# EAGLE library part MX150L-16PINS (library HyTechDevices)
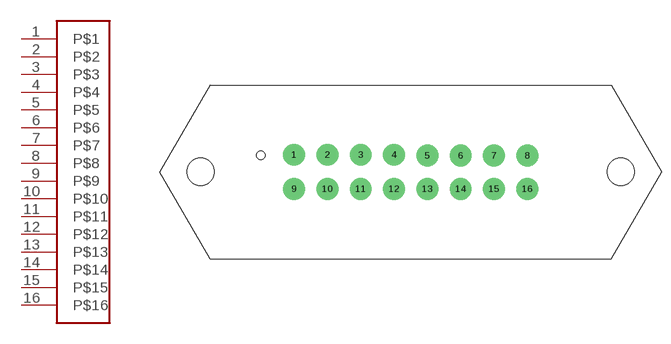
[diagram p67: symbol with the pads of MX150L-VERTICAL-16; footprint MX150L-VERTICAL-16]

Designator prefix -

## MX150L-16PINS  [MX150L-VERTICAL-16]
1  P$1
2  P$2
3  P$3
4  P$4
5  P$5
6  P$6
7  P$7
8  P$8
9  P$9
10  P$10
11  P$11
12  P$12
13  P$13
14  P$14
15  P$15
16  P$16

## Footprint MX150L-VERTICAL-16 (pad centres in mm)
drill 1.778 pad 3.81: 1 -20.447,2.997; 2 -14.605,2.997; 3 -8.763,2.997; 4 -2.921,2.997; 5 2.921,2.845; 6 8.763,2.845; 7 14.605,2.845; 8 20.447,2.845; 9 -20.447,-2.997; 10 -14.605,-2.997; 11 -8.763,-2.997; 12 -2.921,-2.997; 13 2.921,-2.997; 14 8.763,-2.997; 15 14.605,-2.997; 16 20.447,-2.997
hole 1.524 at -26.289,2.921
hole 4.775 at -36.83,0
hole 4.775 at 36.83,0